# EAGLE library part PCM5242 (library common)
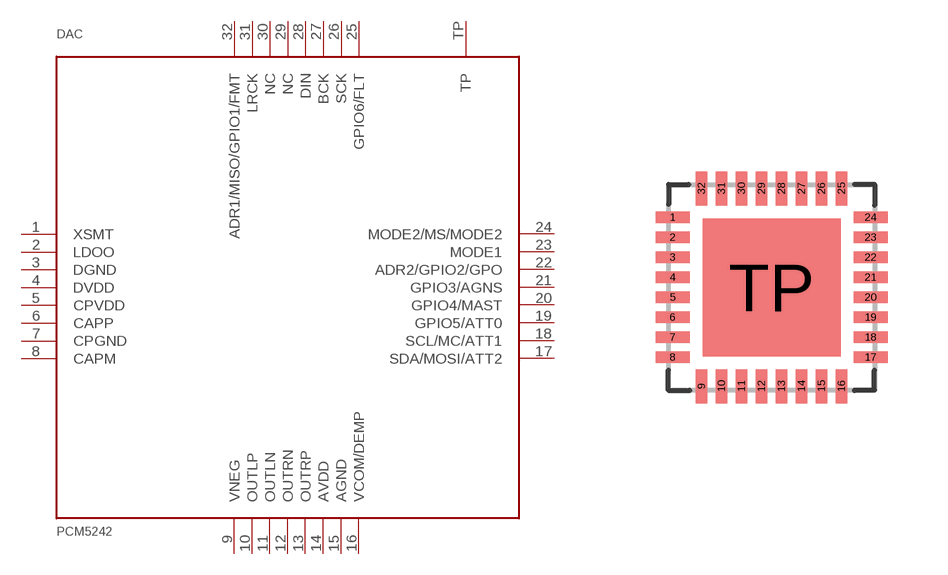
[diagram p18: symbol with the pads of S-PVQFN-N32; footprint S-PVQFN-N32]

Designator prefix DAC

## PCM5242  [S-PVQFN-N32]
1  XSMT
2  LDOO
3  DGND
4  DVDD
5  CPVDD
6  CAPP
7  CPGND
8  CAPM
9  VNEG
10  OUTLP
11  OUTLN
12  OUTRN
13  OUTRP
14  AVDD
15  AGND
16  VCOM/DEMP
17  SDA/MOSI/ATT2
18  SCL/MC/ATT1
19  GPIO5/ATT0
20  GPIO4/MAST
21  GPIO3/AGNS
22  ADR2/GPIO2/GPO
23  MODE1
24  MODE2/MS/MODE2
25  GPIO6/FLT
26  SCK
27  BCK
28  DIN
29  NC
30  NC
31  LRCK
32  ADR1/MISO/GPIO1/FMT
TP  TP

## Footprint S-PVQFN-N32 (pad centres in mm)
smd 0.85 x 0.28: 1 -2.475,1.75; 2 -2.475,1.25; 3 -2.475,0.75; 4 -2.475,0.25; 5 -2.475,-0.25; 6 -2.475,-0.75; 7 -2.475,-1.25; 8 -2.475,-1.75; 17 2.475,-1.75; 18 2.475,-1.25; 19 2.475,-0.75; 20 2.475,-0.25; 21 2.475,0.25; 22 2.475,0.75; 23 2.475,1.25; 24 2.475,1.75
smd 0.28 x 0.85: 9 -1.75,-2.475; 10 -1.25,-2.475; 11 -0.75,-2.475; 12 -0.25,-2.475; 13 0.25,-2.475; 14 0.75,-2.475; 15 1.25,-2.475; 16 1.75,-2.475; 25 1.75,2.475; 26 1.25,2.475; 27 0.75,2.475; 28 0.25,2.475; 29 -0.25,2.475; 30 -0.75,2.475; 31 -1.25,2.475; 32 -1.75,2.475
smd 3.45 x 3.45: TP 0,0